# Altium integrated library 270uF-35V_Radial.IntLib: 1 symbol
Pins are listed as number, name and electrical type; pins without a type are passive.

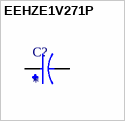
[diagram p0: symbol EEHZE1V271P]

## EEHZE1V271P
designator C?
270F 35V Aluminum - Polymer Capacitors Radial, Can - SMD 20mOhm 2000 Hrs @ 145C; MF: Panasonic; MP: EEHZE1V271P; Price: None; SnapEDA_Link: https://www.snapeda.com/parts/EEHZE1V271P/Panasonic/view-part/5784373/?ref=snap; Availability: No availability data; Value: *; Check_prices: https://www.snapeda.com/parts/EEHZE1V271P/Panasonic/view-part/5784373/?ref=eda; Package: RADIAL-2 Panasonic
footprint CAP_EEHZE1V271P
pins: 1, 2